# Altium footprint library Headers.PcbLib: 3 footprints
Each footprint in its own frame and in the unit in brackets; x right, y up, seen from the top. Pads: shape width x height; smd on the part's side, far side on the other; paste and mask are expansions set on the pad; w line width, h text height; cw(c..) or ccw(c..) is an arc to the next point about the centre after c.
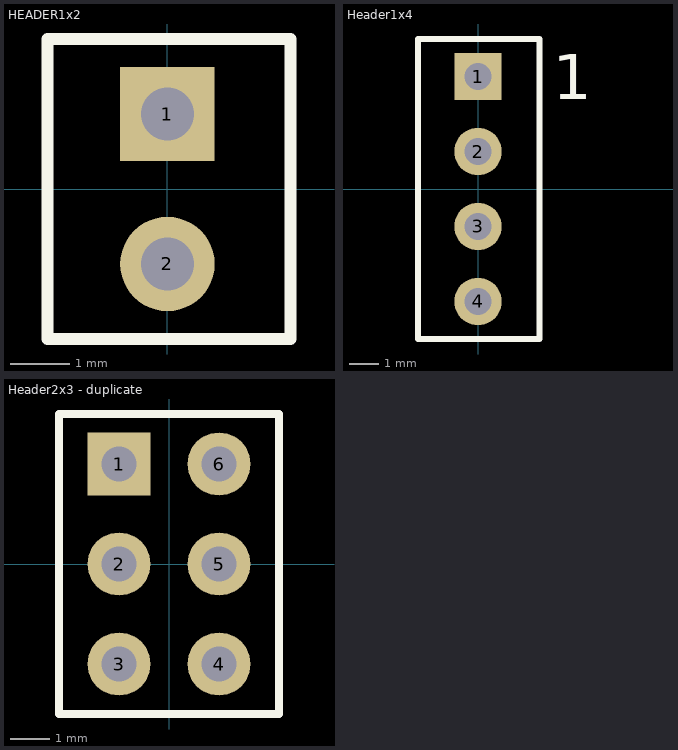
[diagram p0: the footprints below, top view; thin cyan lines are the x and y axes]

## HEADER1x2 [mm]
pads (2):
  rect 1.6x1.6 hole 0.9: 1(0,1.27)
  round 1.6 hole 0.9: 2(0,-1.27)
Top Overlay:
  lines w0.2: -2.032,-2.54 2.085,-2.54 2.085,2.54 -2.032,2.54 -2.032,1.27 -2.032,-1.27 -2.032,-2.54
3D body "Pin Header 1x2 TH Pitch 2.54mm.stp": height 9.5, standoff -3.2, extent -1.27,-2.54 1.27,2.54

## Header1x4 [mm]
pads (4):
  rect 1.6x1.6 hole 0.9: 1(0,3.81)
  round 1.6 hole 0.9: 2(0,1.27) 3(0,-1.27) 4(0,-3.81)
Top Overlay:
  lines w0.2: 2.032,-5.08 -2.032,-5.08 -2.032,5.08 2.032,5.08 ; 2.085,-5.08 2.085,5.08
  text "1" at 2.54,3.048 h1.52
3D body "Pin Header 1x4 TH Pitch 2.54mm.stp": height 9.5, standoff -3.2, extent -1.27,-5.08 1.27,5.08

## Header2x3 - duplicate [mm]
pads (6):
  rect 1.6x1.6 hole 0.9: 1(-1.27,2.54)
  round 1.6 hole 0.9: 2(-1.27,0) 3(-1.27,-2.54) 4(1.27,-2.54) 5(1.27,0) 6(1.27,2.54)
Top Overlay:
  lines w0.2: -0.635,3.81 2.794,3.81 2.794,-3.81 -2.794,-3.81 -2.794,3.81 0.635,3.81
3D body "Pin Header 1x3 TH Pitch 2.54mm.stp": height 9.5, standoff -3.2, extent -2.54,-3.81 0,3.81
3D body "Pin Header 1x3 TH Pitch 2.54mm.stp": height 9.5, standoff -3.2, extent 0,-3.81 2.54,3.81